# Altium footprint library Orient.PcbLib: 39 footprints (part 2 of 3)
Each footprint in its own frame and in the unit in brackets; x right, y up, seen from the top. Pads: shape width x height; smd on the part's side, far side on the other; paste and mask are expansions set on the pad; w line width, h text height; cw(c..) or ccw(c..) is an arc to the next point about the centre after c.
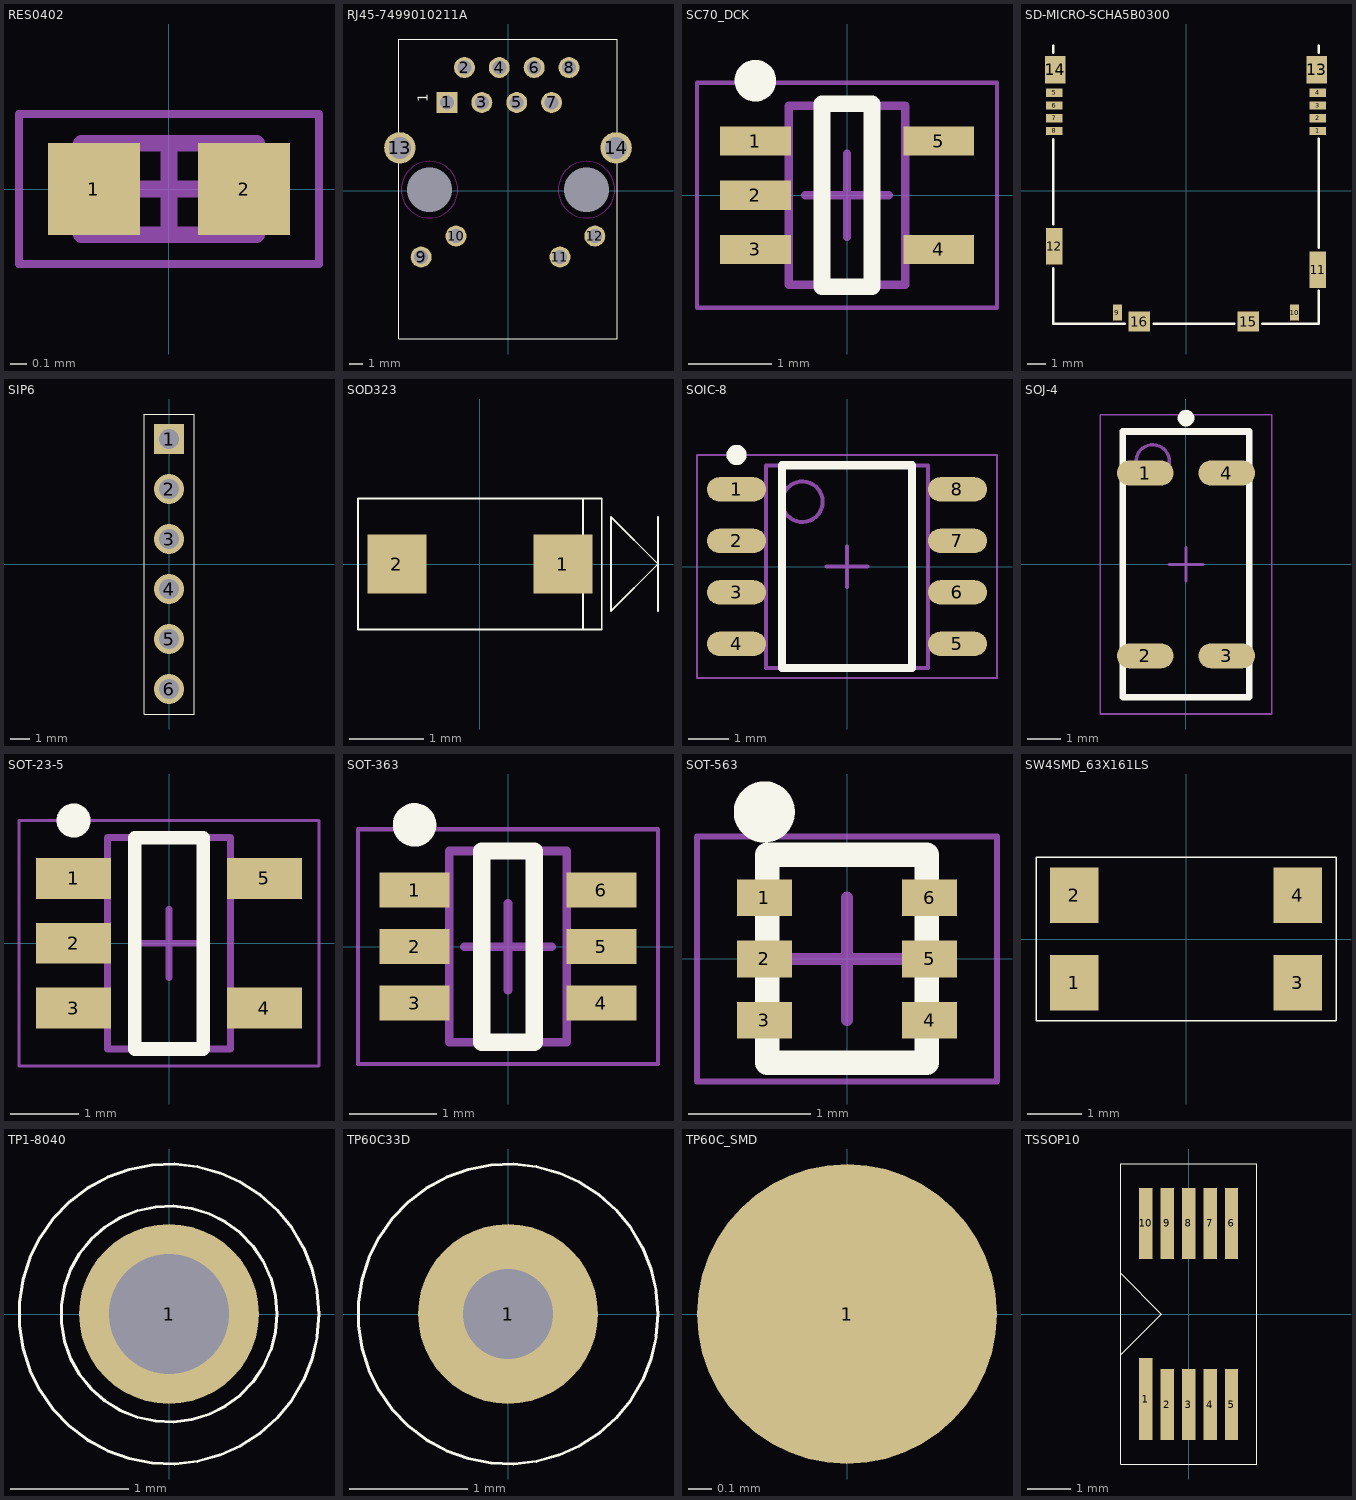
[diagram p1: the footprints below, top view; thin cyan lines are the x and y axes]

## RES0402 [mm] "Chip Resistor, 2-Leads, Body 1.00x0.50mm, IPC Medium Density"
height 0.4
pads (2):
  rect 0.55x0.55 smd mask+0.051: 1(-0.45,0) 2(0.45,0)
Mechanical 13:
  lines w0.1: -0.525,-0.275 -0.525,0.275 0.525,0.275 0.525,-0.275 -0.525,-0.275
Mechanical 15:
  lines w0.05: -0.9,-0.45 -0.9,0.45 0.9,0.45 0.9,-0.45 -0.9,-0.45
  lines w0.1: -0.275,0 0.275,0 ; 0,-0.275 0,0.275
3D body "RESC1005X04N.step": height 0.4, standoff 0, extent -0.525,-0.275 0.525,0.275

## RJ45-7499010211A [mil] "RJ45-7499010211A"
pads (16):
  rect 60x60 hole 40 mask+2: 1(-175,252.5)
  round 60 hole 40 mask+2: 2(-125,352.5) 3(-75,252.5) 4(-25,352.5) 5(25,252.5) 6(75,352.5) 7(125,252.5) 8(175,352.5) 9(-249,-190.5) 10(-149,-130.5) 11(149,-190.5) 12(249,-130.5)
  round 90 hole 63 mask+2: 13(-310,122.5) 14(310,122.5)
  round 40 / inner round 150 / far side round 40 hole 128 mask+2: " "(-225,2.5) " "(225,2.5)
Top Overlay:
  lines w1: -313,-425.5 -313,434.5 313,434.5 313,-425.5 -313,-425.5
  text "1" at -230,252.5 h28
Multi-Layer keep-out:
  circle w1: c-225,2.5 r81
  circle w1: c225,2.5 r81
3D body "7499010211A_Download_STP_7499010211A_rev1.stp": height 532.75, standoff -118.83, extent -312.6,-426.74 312.6,433.1

## SC70_DCK [mm] "SOT23, 5-Leads, Body 2.00x2.10mm, Pitch 0.65mm, IPC Medium Density"
height 1.1
pads (5):
  rect 0.85x0.35 smd: 1(-1.1,0.65) 2(-1.1,0) 3(-1.1,-0.65) 4(1.1,-0.65) 5(1.1,0.65)
Top Overlay:
  circle w0.25: c-1.1,1.375 r0.125
  lines w0.2: -0.3,-1.1 0.3,-1.1 0.3,1.1 -0.3,1.1 -0.3,-1.1
Mechanical 13:
  lines w0.1: -0.7,-1.075 -0.7,1.075 0.7,1.075 0.7,-1.075 -0.7,-1.075
Mechanical 15:
  lines w0.05: -1.8,-1.35 -1.8,1.35 1.8,1.35 1.8,-1.35 -1.8,-1.35
  lines w0.1: -0.5,0 0.5,0 ; 0,-0.5 0,0.5
3D body "SOT65P210X110-5N.step": height 1.1, standoff 0, extent -1.2,-1.075 1.2,1.075

## SD-MICRO-SCHA5B0300 [mil] "SD-MICRO-SCHA5B0300"
pads (16):
  rect 36x18 smd mask+2: 1(285.72,130) 2(285.72,157.56) 3(285.72,185.12) 4(285.72,212.68) 5(-285.72,212.68) 6(-285.72,185.12) 7(-285.72,157.56) 8(-285.72,130)
  rect 20x35 smd mask+2: 9(-148.62,-263.28) 10(235.24,-263.28)
  rect 35x79 smd mask+2: 11(285.43,-170.59) 12(-285.43,-119.41)
  rect 44x60 smd mask+2: 13(283.32,262.48) 14(-283.32,262.48)
  rect 47x43 smd mask+2: 15(134.84,-282.91) 16(-101.37,-282.91)
Top Overlay:
  lines w5: -287.5,-167 -287.5,-287.5 -132.5,-287.5 ; -287.5,-72.5 -287.5,112.05 ; -287.5,299.5 -287.5,315 ; -70,-287.5 104.5,-287.5 ; 165.5,-287.5 287.5,-287.5 287.5,-215.5 ; 287.5,-123 287.5,113 ; 287.5,299.5 287.5,315
3D body "_025700893_cp.step": height 35.43, standoff -35.43, extent -276.44,-291.43 266.87,318.81

## SIP6 [mil] "SIP6"
pads (6):
  rect 60x60 hole 40 mask+2: 1(0,250)
  round 60 hole 40 mask+2: 2(0,150) 3(0,50) 4(0,-50) 5(0,-150) 6(0,-250)
Top Overlay:
  lines w1: -50,-300 50,-300 50,300 -50,300 -50,-300

## SOD323 [mil] "SOD323"
pads (2):
  rect 31.5x31.5 smd mask+2: 1(44.29,0) 2(-44.29,0)
Top Overlay:
  lines w1: 55,-35 55,35 ; 95,-25 95,25 ; -65,-35 65,-35 65,35 -65,35 -65,-35 ; 70,-25 70,25 95,0 70,-25

## SOIC-8 [mm] "SOIC, 8-Leads, Body 4.90x3.90mm, Pitch 1.27mm, IPC Medium Density"
height 1.75
pads (8):
  oval 1.45x0.6 smd: 1(-2.725,1.905) 2(-2.725,0.635) 3(-2.725,-0.635) 4(-2.725,-1.905) 5(2.725,-1.905) 6(2.725,-0.635) 7(2.725,0.635) 8(2.725,1.905)
Top Overlay:
  circle w0.25: c-2.725,2.755 r0.125
  lines w0.2: -1.6,-2.5 -1.6,2.5 1.6,2.5 1.6,-2.5 -1.6,-2.5
Mechanical 13:
  circle w0.1: c-1.1,1.6 r0.5
  lines w0.1: -2,-2.5 -2,2.5 2,2.5 2,-2.5 -2,-2.5
Mechanical 15:
  lines w0.05: -3.7,-2.75 -3.7,2.75 3.7,2.75 3.7,-2.75 -3.7,-2.75
  lines w0.1: -0.5,0 0.5,0 ; 0,-0.5 0,0.5
3D body "SOIC127P600X175-8N.step": height 1.75, standoff 0, extent -3,-2.5 3,2.5

## SOJ-4 [mm] "SOJ, 4-Leads, Body 8.00x3.80mm, Pitch 5.50mm, IPC Low Density"
height 2.5
pads (4):
  oval 1.7x0.75 smd: 1(-1.225,2.75) 2(-1.225,-2.75) 3(1.225,-2.75) 4(1.225,2.75)
Top Overlay:
  circle w0.25: c0,4.4 r0.125
  lines w0.2: -1.9,-4 -1.9,4 1.9,4 1.9,-4 -1.9,-4
Mechanical 13:
  circle w0.1: c-1,3.1 r0.5
  lines w0.1: -1.9,-4 -1.9,4 1.9,4 1.9,-4 -1.9,-4
Mechanical 15:
  lines w0.05: -2.575,-4.5 -2.575,4.5 2.575,4.5 2.575,-4.5 -2.575,-4.5
  lines w0.1: -0.5,0 0.5,0 ; 0,-0.5 0,0.5
3D body "SOJ550P380X250-4M.step": height 2.5, standoff 0, extent -1.9,-4 1.9,4

## SOT-23-5 [mm] "SOT23, 5-Leads, Body 2.90x2.70mm, Pitch 0.95mm, IPC Medium Density"
height 1.45
pads (5):
  rect 1.1x0.6 smd: 1(-1.4,0.95) 2(-1.4,0) 3(-1.4,-0.95) 4(1.4,-0.95) 5(1.4,0.95)
Top Overlay:
  circle w0.25: c-1.4,1.8 r0.125
  lines w0.2: -0.5,-1.55 0.5,-1.55 0.5,1.55 -0.5,1.55 -0.5,-1.55
Mechanical 13:
  lines w0.1: -0.9,-1.55 -0.9,1.55 0.9,1.55 0.9,-1.55 -0.9,-1.55
Mechanical 15:
  lines w0.05: -2.2,-1.8 -2.2,1.8 2.2,1.8 2.2,-1.8 -2.2,-1.8
  lines w0.1: -0.5,0 0.5,0 ; 0,-0.5 0,0.5
3D body "SOT95P270X145-5N.step": height 1.45, standoff 0, extent -1.7,-1.55 1.7,1.55

## SOT-363 [mm] "SOT23, 6-Leads, Body 2.00x2.10mm, Pitch 0.65mm, IPC Medium Density"
height 1.1
pads (6):
  rect 0.8x0.4 smd: 1(-1.075,0.65) 2(-1.075,0) 3(-1.075,-0.65) 4(1.075,-0.65) 5(1.075,0) 6(1.075,0.65)
Top Overlay:
  circle w0.25: c-1.075,1.4 r0.125
  lines w0.2: -0.3,-1.1 -0.3,1.1 0.3,1.1 0.3,-1.1 -0.3,-1.1
Mechanical 13:
  lines w0.1: -0.675,-1.1 0.675,-1.1 0.675,1.1 -0.675,1.1 -0.675,-1.1
Mechanical 15:
  lines w0.05: -1.725,-1.35 1.725,-1.35 1.725,1.35 -1.725,1.35 -1.725,-1.35
  lines w0.1: -0.5,0 0.5,0 ; 0,-0.5 0,0.5
3D body "SOT65P210X110-6N.step": height 1.1, standoff 0, extent -1.1,-1.1 1.1,1.1

## SOT-563 [mm] "SOTFL, 6-Leads, Body 1.60x1.60mm, Pitch 0.50mm, IPC Medium Density"
height 0.6
pads (6):
  rect 0.45x0.3 smd: 1(-0.675,0.5) 2(-0.675,0) 3(-0.675,-0.5) 4(0.675,-0.5) 5(0.675,0) 6(0.675,0.5)
Top Overlay:
  circle w0.25: c-0.675,1.2 r0.125
  lines w0.2: -0.65,-0.85 -0.65,0.85 0.65,0.85 0.65,-0.85 -0.65,-0.85
Mechanical 13:
  lines w0.1: -0.65,-0.85 0.65,-0.85 0.65,0.85 -0.65,0.85 -0.65,-0.85
Mechanical 15:
  lines w0.05: -1.225,-1 1.225,-1 1.225,1 -1.225,1 -1.225,-1
  lines w0.1: -0.5,0 0.5,0 ; 0,-0.5 0,0.5
3D body "SOTFL50P160X60-6N.step": height 0.6, standoff 0, extent -0.8,-0.848 0.8,0.848

## SW4SMD_63X161LS [mil] "SW4SMD_63X161LS"
pads (4):
  rect 35x40 smd mask+2: 1(-80.71,-31.5) 2(-80.71,31.5) 3(80.71,-31.5) 4(80.71,31.5)
Top Overlay:
  lines w1: -108.27,-59.06 108.27,-59.06 108.27,59.06 -108.27,59.06 -108.27,-59.06
3D body "KMR231GLFS.step": height 75.59, standoff -0.77, extent -90.55,-55.12 90.55,55.12

## TP1-8040 [mil] "TP1-8040"
pads (1):
  round 60 hole 40 mask+2: 1(0,0)
Top Overlay:
  circle w1: c0,0 r50
  circle w1: c0,0 r36

## TP60C33D [mil] "TP60C33D"
pads (1):
  round 60 hole 30 mask+2: 1(0,0)
Top Overlay:
  circle w1: c0,0 r50

## TP60C_SMD [mil] "TP60C_SMD"
pads (1):
  round 50 smd mask+2: 1(0,0)

## TSSOP10 [mil] "TSSOP10"
pads (10):
  rect 12x75 smd mask+2: 1(-39.37,-78)
  rect 12x65 smd mask+2: 2(-19.69,-83) 3(0,-83) 4(19.69,-83) 5(39.37,-83) 6(39.37,83) 7(19.69,83) 8(0,83) 9(-19.69,83) 10(-39.37,83)
Top Overlay:
  lines w1: -62.5,-37.5 -25,0 -62.5,37.5 ; -62.5,-137.5 -62.5,137.5 62.5,137.5 62.5,-137.5 -62.5,-137.5